# Altium footprint library CON-COAX.PcbLib: 1 footprints
Each footprint in its own frame and in the unit in brackets; x right, y up, seen from the top. Pads: shape width x height; smd on the part's side, far side on the other; paste and mask are expansions set on the pad; w line width, h text height; cw(c..) or ccw(c..) is an arc to the next point about the centre after c.
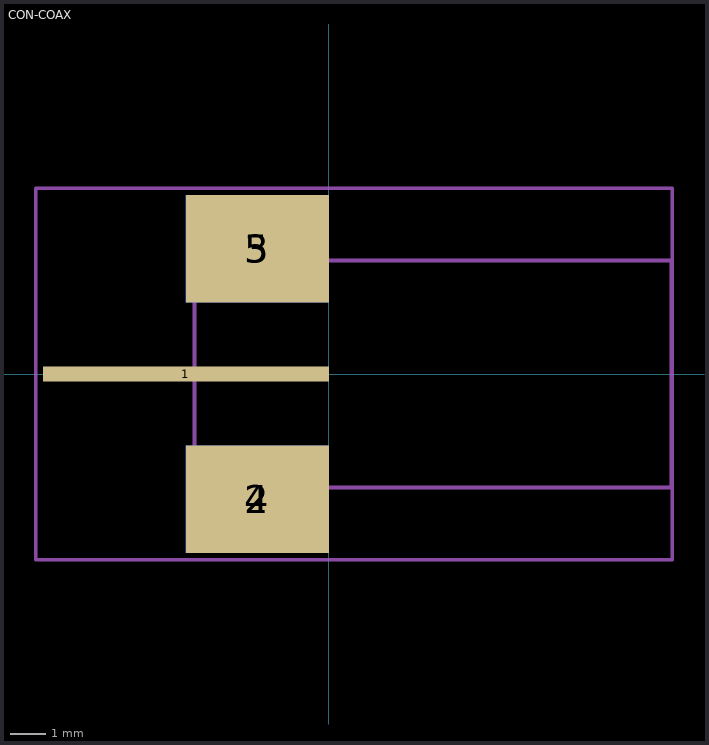
[diagram p0: the footprint, top view; thin cyan lines are the x and y axes]

## CON-COAX [mm]
pads (5):
  rect 8x0.432 smd: 1(-4,0)
  rect 4x3 smd: 2(-2,-3.5) 3(-2,3.5)
  rect 4x3 smd far side: 4(-2,-3.5) 5(-2,3.5)
Mechanical 1:
  text ".Designator" at -9,1 h1
Mechanical 13:
  lines w0.102: -3.761,-3.175 -3.761,3.175 9.574,3.175 9.574,-3.175 -3.761,-3.175
Mechanical 15:
  lines w0.102: -8.2,-5.2 -8.2,5.2 9.6,5.2 9.6,-5.2 -8.2,-5.2
3D body: height 3.57, standoff -2.78, extent -3.761,-3.175 9.574,3.175